# EAGLE library part CHRONODOT (library Dek)
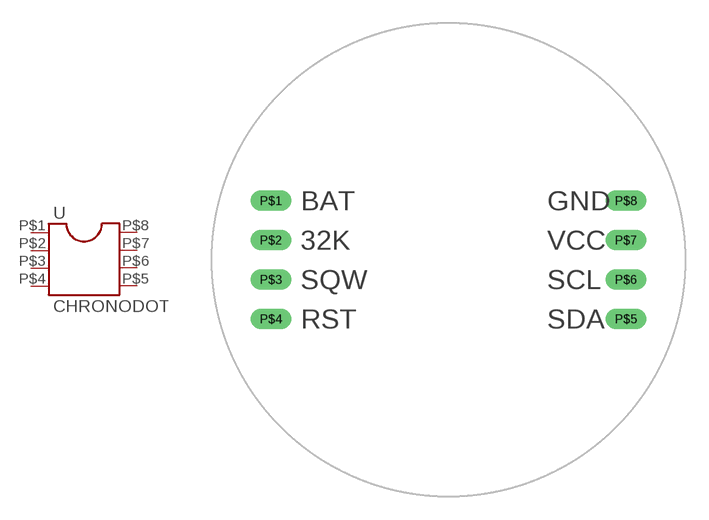
[diagram p7: symbol with the pads of CHRONODOT; footprint CHRONODOT]

Designator prefix -

## CHRONODOTV1  [CHRONODOT]
P$1  1  pas
P$2  2  pas
P$3  3  pas
P$4  4  pas
P$5  5  pas
P$6  6  pas
P$7  7  pas
P$8  8  pas

## Footprint CHRONODOT (pad centres in mm)
drill 0.8 long: P$1 -11.43,3.81; P$2 -11.43,1.27; P$3 -11.43,-1.27; P$4 -11.43,-3.81; P$5 11.43,-3.81; P$6 11.43,-1.27; P$7 11.43,1.27; P$8 11.43,3.81